# Altium schematic symbol library X_10_MSP430_BSL.SchLib: 1 symbol
Pins are listed as number, name and electrical type; pins without a type are passive.

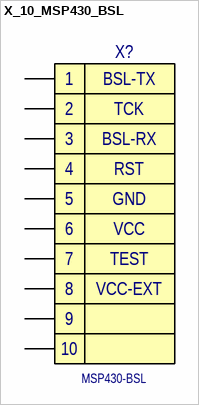
[diagram p0: symbol X_10_MSP430_BSL]

## X_10_MSP430_BSL
designator X?
ManufacturerPartNumber: ManufacturerPartNumber
pins: 1 "Transmit data output pin from the bootstrap loader. Port pin 1.1 for microcontrollers MSP430F1xx.", 2 "for BSL used only for microcontrollers with package over 28 pins.", 3 "Receive data input pin to the bootstrap loader. Port pin 2.2 for microcontrollers MSP430F1xx.", 4, 5, 6, 7 "for BSL used only for microcontrollers with package up to 28 pins.", 8 "Signal is not mandatory. Can be connected to external power supply with DC voltage  between 5V to 6V to power the target devices via adapter’s LDO 3.3V regulator and  controlled by interface switch (see block diagram). Maximum current supplying  target d", 9, 10
text: BSL-TX; TCK; BSL-RX; RST; GND; VCC; TEST; VCC-EXT; MSP430-BSL